# Altium schematic symbol library DISPLAY.SchLib: 1 symbol
Pins are listed as number, name and electrical type; pins without a type are passive.

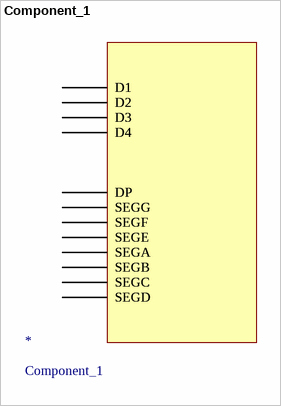
[diagram p0: symbol Component_1]

## Component_1
designator *
pins: D1, D1, D2, D2, D3, D3, D4, D4, DP, DP, SEGA, SEGA, SEGB, SEGB, SEGC, SEGC, SEGD, SEGD, SEGE, SEGE, SEGF, SEGF, SEGG, SEGG